# EAGLE library part SIM7600G (library FansElectronics-Modul)
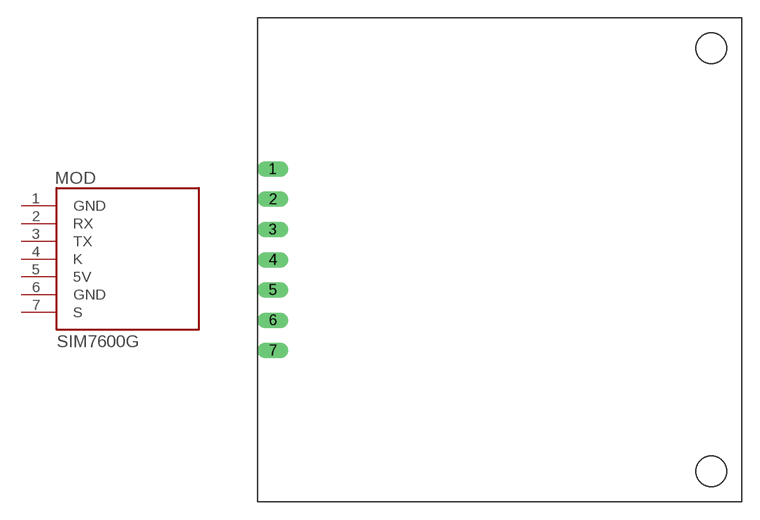
[diagram p36: symbol with the pads of SIM7600G; footprint SIM7600G]

Designator prefix MOD

## SIM7600G  [SIM7600G]
1  GND  pwr
2  RX
3  TX
4  K
5  5V  pwr
6  GND  pwr
7  S

## Footprint SIM7600G (pad centres in mm)
drill 0.8 long: 1 -19.05,6.35; 2 -19.05,3.81; 3 -19.05,1.27; 4 -19.05,-1.27; 5 -19.05,-3.81; 6 -19.05,-6.35; 7 -19.05,-8.89